# Altium schematic symbol library Schlib2.SchLib: 3 symbols
Pins are listed as number, name and electrical type; pins without a type are passive.

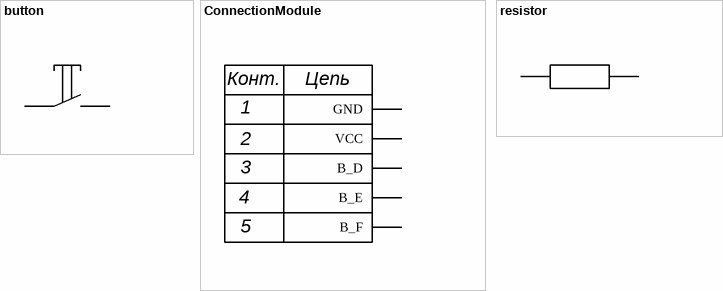
[diagram p0: symbols button to resistor]

## button
designator SW?
pins: 1, 2

## ConnectionModule
designator XS?, comment Connector
pins: 1 GND, 2 VCC, 3 B_D, 4 B_E, 5 B_F
text: Конт.; Цепь

## resistor
designator R?
pins: 1, 2